# Altium integrated library TSW-111-08-G-D-RA.IntLib: 2 symbols
Pins are listed as number, name and electrical type; pins without a type are passive.

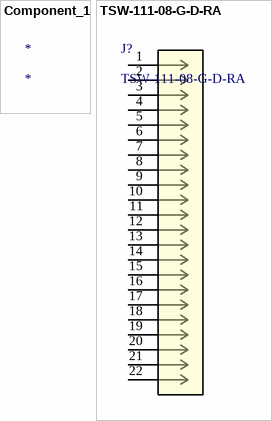
[diagram p0: symbols Component_1 to TSW-111-08-G-D-RA]

## Component_1
designator *

## TSW-111-08-G-D-RA
designator J?
No Description Available; Mfr_Name: Samtec Inc; Copyright: Copyright (C) 2022 Ultra Librarian. All rights reserved.; Manufacturer_Part_Number: TSW-111-08-G-D-RA; RefDes: RefDes; Type: DEV
footprint CON23_2X11_TR_TSW_SAI
pins: 1, 2, 3, 4, 5, 6, 7, 8, 9, 10, 11, 12, 13, 14, 15, 16, 17, 18, 19, 20, 21, 22